# Altium schematic symbol library K.SchLib: 9 symbols
Pins are listed as number, name and electrical type; pins without a type are passive.

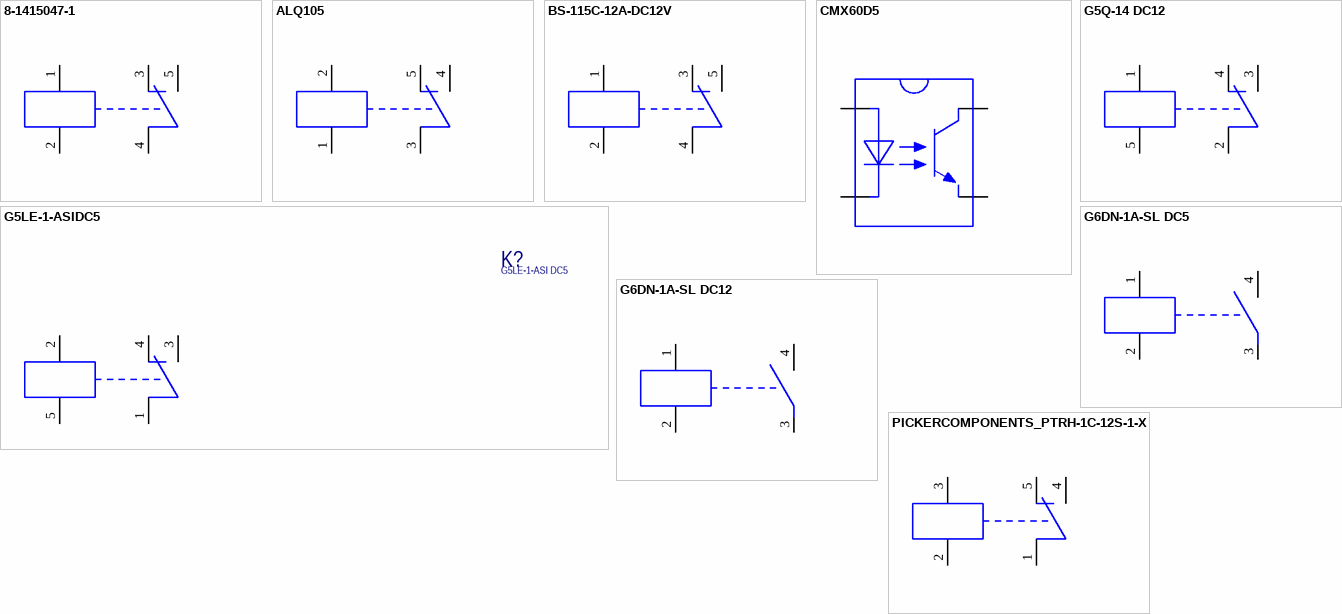
[diagram p0: symbols 8-1415047-1 to PICKERCOMPONENTS_PTRH-1C-12S-1-X]

## 8-1415047-1
designator K?
RELAY GEN PURPOSE SPST 16A 12V; Manufacturer Part Number: 8-1415047-1; Manufacturer: TE Connectivity Potter & Brumfield Relays; TH: 1
footprint RELAY_8-1415047-1
pins: 1, 2, 3, 4, 5

## ALQ105
designator K?
RELAY GEN PURPOSE SPDT 10A 5V; Manufacturer Part Number: ALQ105; Manufacturer: Panasonic Electric Works; TH: 1
footprint RELAY_ALQ105 (RELAY)
pins: 1, 2, 3, 4, 5

## BS-115C-12A-DC12V
designator K?
RELAY GEN PURPOSE SPST 12A 12V; Manufacturer Part Number: BS-115C-12A-DC12V; Manufacturer: Bestar; TH: 1
footprint RELAY_BS-115C-12A-DC12V
pins: 1, 2, 3, 4, 5

## CMX60D5
designator K?
SSR RELAY SPST-NO 10A 0-60V; Manufacturer: Sensata-Crydom; Manufacturer Part Number: CMX60D10; TH: 1
footprint RELAY_CMX60D5
pins: 1, 2, 3, 4

## G5LE-1-ASIDC5
designator K?, comment G5LE-1-ASI DC5
RELAY GEN PURPOSE SPDT 10A 5V; Manufacturer: Omron; Relay Type: General Purpose; Coil Type: Non-Latching; Coil Current: 79.4mA; Operate Time: 10ms; Release Time: 5ms; Coil Power: 400mW; Coil Resistance: 63R; Max Voltage Rating (AC): 250V; Max Voltage Rating (DC): 125V; Supplier 1: Digi-Key; Manufacturer Part Number: G5LE-1-ASI DC5; RoHS: Yes; Category: Power Relays; Stock 1: 395; Pricing 1: 1=1,45000, 10=1,36100, 25=1,21000, 50=1,14940, 100=1,08880, 250=0,96784, 500=0,90736, 1000=0,84686, 5000=0,81662 (USD); Mount: Through Hole; Number of Pins: 5; Weight: 12g; Contact Material: Tin,Silver; Min Operating Temperature: -40°C; Max Operating Temperature: 85°C; Max Current Rating: 10A; Coil Voltage (DC): 5V; Contact Current Rating: 10A; Throw Configuration: SPDT; Termination: PC Pin; Package Quantity: 100; Packaging: Bulk; Radiation Hardening: No; Lead Free: Lead Free; ComponentLink1URL: https://datasheet.ciiva.com/2408/g5le-0813-2408354.pdf?src-supplier=Digi-Key; ComponentLink1Description: https://datasheet.ciiva.com/2408/g5le-0813-2408354.pdf?src-supplier=Digi-Key; Supplier Part Number 1: Z5212-ND
footprint RELAY_G5LE (Relay 16.5x22.5)
pins: 1 COM, 2 COIL1, 3 NO, 4 NC, 5 COIL2

## G5Q-14 DC12
designator K?
RELAY GEN PURPOSE SPDT 10A 12V; Manufacturer Part Number: G5Q-14 DC12; Manufacturer: OMRON; TH: 1
footprint RELAY_G5Q-1 (RELAY GEN PURPOSE SPDT OMRON)
pins: 1, 2, 3, 4, 5

## G6DN-1A-SL DC5
designator K?
Relay; Slim Power; Sealed; General Purpose; SPST-NO; 1 Pole; 5A; 250VAC/30VDC; 5VDC; PCB; Manufacturer: OMRON; TH: 1; Manufacturer Part Number: G6DN-1A-SL DC5; Supplier 1: Digi-Key; RoHS: No; Stock 1: 1178; Pricing 1: 1=2,04000, 10=1,91400, 25=1,70160, 50=1,61640, 100=1,53130, 250=1,36112, 500=1,27606, 1000=1,19098, 5000=1,14845 (USD); Supplier Part Number 1: 39-G6DN-1A-SLDC5-ND
footprint OMRON_G6DN-1A (Omron Electronics Inc-EMC Div 5x20mm height 12mm)
pins: 1, 2, 3, 4

## G6DN-1A-SL DC12
designator K?
RELAY GEN PURPOSE SPST 5A 12V; Manufacturer: OMRON; TH: 1; Manufacturer Part Number: G6DN-1A-SL DC12
footprint OMRON_G6DN-1A (Omron Electronics Inc-EMC Div 5x20mm height 12mm)
pins: 1, 2, 3, 4

## PICKERCOMPONENTS_PTRH-1C-12S-1-X
designator K?
30A SPDT T-STYLE PCB RELAY 12V; Manufacturer Part Number: PTRH-1C-12S-1-X; Manufacturer: Picker Components; TH: 1
footprint RELAY_T90 (INDUSTRIAL STANDART T90)
pins: 1, 2, 3, 4, 5